# Altium schematic symbol library opto.SchLib: 3 symbols
Pins are listed as number, name and electrical type; pins without a type are passive.

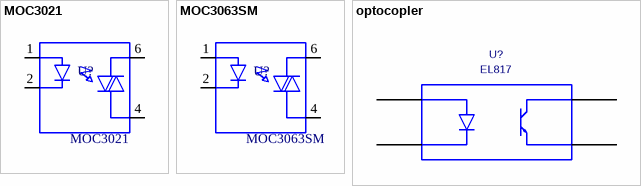
[diagram p0: symbols MOC3021 to optocopler]

## MOC3021
designator U?
Optoisolator Triac Output 5000Vrms 1 Channel 6-DIP; Value: MOC3021
footprint DIL06
pins: 1 ANODE, 2 CATODE, 4 MAIN_TERM2, 6 MAIN_TERM1

## MOC3063SM
designator U?
Optoisolator Triac Output 5000Vrms 1 Channel 6-DIP; Value: MOC3063SM
footprint SOIC6 (DIP, pitch 2.54mm, 300mil Width)
pins: 1 ANODE, 2 CATODE, 4 MAIN_TERM2, 6 MAIN_TERM1

## optocopler
designator U?, comment EL817
Value: EL817
footprint PDIP300-4pin
pins: 1, 2, 3, 4